# EAGLE library part 282836-6 (library con_tyco_eurostyle)
Tyco 282836-6
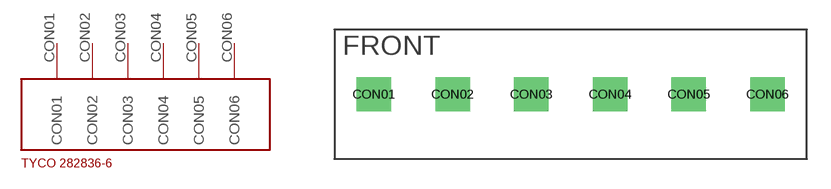
[diagram p2: symbol with the pads of 282836-6; footprint 282836-6]

Designator prefix -

## 282836-6  [282836-6]
CON01  CON01
CON02  CON02
CON03  CON03
CON04  CON04
CON05  CON05
CON06  CON06

## Footprint 282836-6 (pad centres in mm)
Tyco 282836-6
drill 1.2 pad 2.184 square: CON01 -12.5,0; CON02 -7.5,0; CON03 -2.5,0; CON04 2.5,0; CON05 7.5,0; CON06 12.5,0